# EAGLE library part CONNECTOR-2X5 (library eagle-library-engr-245-s22)
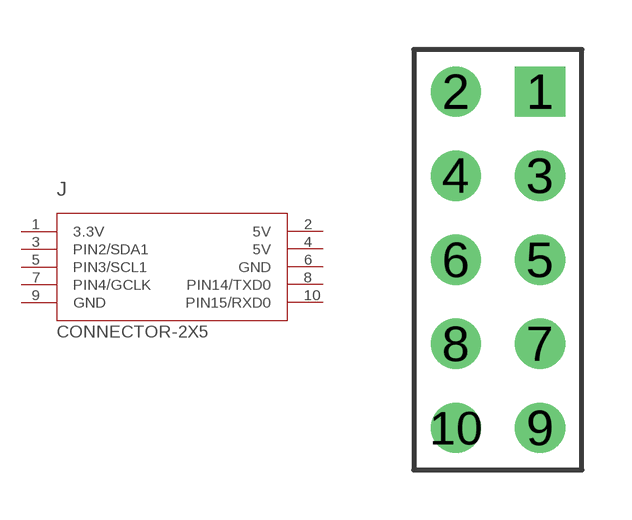
[diagram p6: symbol with the pads of PPTC052LFBN; footprint PPTC052LFBN]

Designator prefix J

## CONNECTOR-2X5  [PPTC052LFBN]
1  3.3V
2  5V
3  PIN2/SDA1
4  5V
5  PIN3/SCL1
6  GND
7  PIN4/GCLK
8  PIN14/TXD0
9  GND
10  PIN15/RXD0

## Footprint PPTC052LFBN (pad centres in mm)
drill 1.016 square: 1 0,0
drill 1.016: 2 -2.54,0; 3 0,-2.54; 4 -2.54,-2.54; 5 0,-5.08; 6 -2.54,-5.08; 7 0,-7.62; 8 -2.54,-7.62; 9 0,-10.16; 10 -2.54,-10.16